# Altium schematic symbol library HORNET_MOTOR_CONTROLLER.SCHLIB: 3 symbols
Pins are listed as number, name and electrical type; pins without a type are passive.

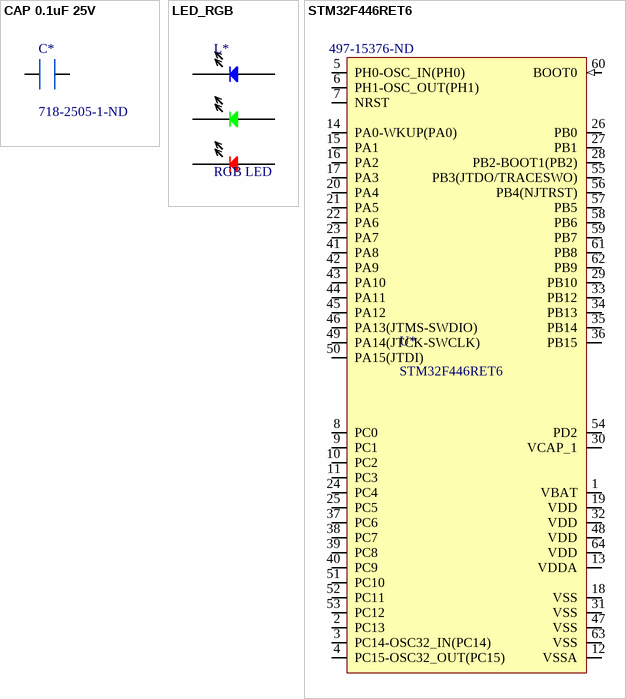
[diagram p0: symbols CAP 0.1uF 25V to STM32F446RET6]

## CAP 0.1uF 25V
designator C*  Supplier Part Number 1: 718-2505-1-ND
Tantalum Capacitor, Polarized, Tantalum (dry/solid), 25V, 20% +Tol, 20% -Tol, 0.1uF, Surface Mount, 0805; Manufacturer: Vishay; Manufacturer Part Number: TMCP1E104MTRF; Supplier 1: Digi-Key; RoHS: No; Category: Tantalum Capacitors; Stock 1: 2857; Pricing 1: 1=0.33000, 10=0.22600, 50=0.15800, 100=0.13550, 500=0.10158, 1000=0.08579 (USD); Number of Pins: 2; Dielectric Material: Tantalum; Terminal Finish: Tin; JESD-609 Code: e3; Capacitor Type: Tantalum; ComponentLink1URL: https://datasheet.ciiva.com:443/pdfs/VipMasterIC/IC/VISH/VISH-S-A0002931701/VISH-S-A0002931701-1.pdf?src-supplier=IHS+Markit; ComponentLink1Description: https://datasheet.ciiva.com:443/pdfs/VipMasterIC/IC/VISH/VISH-S-A0002931701/VISH-S-A0002931701-1.pdf?src-supplier=IHS+Markit
pins: 0 08, 1

## LED_RGB
designator L*, comment RGB LED
Triple Color LED
footprint UHD1110-FKA-CL1A13R3Q1BBQFMF3
pins: 1 GREEN -, 2 Green +, 3 RED -, 4 Red +, 5 BLUE -, 6 Blue +

## STM32F446RET6
designator U*  Supplier Part Number 1: 497-15376-ND
RISC Microcontroller, 32-Bit, FLASH, CORTEX-M4F CPU, 180MHz, CMOS, PQFP64; Manufacturer: STMicroelectronics; Package Body Material: Plastic; Package Equivalence Code: QFP64,.47SQ,20; Power Supplies: 1.8/3.3V; Speed: 180RPM; Max Supply Current: 115mA; Qualification Status: Not Qualified; Parameter 1: *; Supplier 1: Digi-Key; Manufacturer Part Number: STM32F446RET6; RoHS: Yes; Category: Microcontrollers; Pricing 1: 1=9.05000, 10=8.17300, 25=7.79320, 160=6.76675, 320=6.46266, 480=5.89242, 960=5.13210, 2400=4.94202, 4960=4.75194 (USD); Package Code: QFP; Number of Pins: 64; Package Shape: Square; Min Operating Temperature: -40°C; Max Operating Temperature: 85°C; JESD-30 Code: S-PQFP-G64; Package Style: FLATPACKMeter; Surface Mount: Yes; Technology: CMOS; Terminal Form: Gull Wing; Terminal Position: QUAD; Terminal Pitch: 0.5mm; Temperature Grade: INDUSTRIAL; ComponentLink1URL: https://datasheet.ciiva.com:443/pdfs/VipMasterIC/IC/SGST/SGST-S-A0000954157/SGST-S-A0000954273-1.pdf?src-supplier=IHS+Markit; ComponentLink1Description: https://datasheet.ciiva.com:443/pdfs/VipMasterIC/IC/SGST/SGST-S-A0000954157/SGST-S-A0000954273-1.pdf?src-supplier=IHS+Markit; ComponentLink2URL: http://www.farnell.com/datasheets/2309063.pdf?src-supplier=Farnell; ComponentLink2Description: http://www.farnell.com/datasheets/2309063.pdf?src-supplier=Farnell; ComponentLink3URL: http://www.mouser.com/ds/2/389/stm32f446mc-956216.pdf?src-supplier=Mouser; ComponentLink3Description: http://www.mouser.com/ds/2/389/stm32f446mc-956216.pdf?src-supplier=Mouser; ComponentLink4URL: http://www.farnell.com/datasheets/2309063.pdf?src-supplier=Newark; ComponentLink4Description: http://www.farnell.com/datasheets/2309063.pdf?src-supplier=Newark; ComponentLink5URL: http://www.st.com/content/ccc/resource/technical/document/datasheet/65/cb/75/50/53/d6/48/24/DM00141306.pdf/files/DM00141306.pdf/jcr:content/translations/en.DM00141306.pdf?src-supplier=Digi-Key; ComponentLink5Description: http://www.st.com/content/ccc/resource/technical/document/datasheet/65/cb/75/50/53/d6/48/24/DM00141306.pdf/files/DM00141306.pdf/jcr:content/translations/en.DM00141306.pdf?src-supplier=Digi-Key; ComponentLink6URL: http://www.farnell.com/datasheets/2309063.pdf?src-supplier=Element14; ComponentLink6Description: http://www.farnell.com/datasheets/2309063.pdf?src-supplier=Element14
pins: 1 VBAT (power), 2 PC13 (io) "PC13/EVENTOUT/TAMP_1/WKUP1", 3 PC14-OSC32_IN(PC14) (io) "PC14/EVENTOUT/OSC32_IN", 4 PC15-OSC32_OUT(PC15) (io) "PC15/EVENTOUT/OSC32_OUT", 5 PH0-OSC_IN(PH0) (io) "PH0/EVENTOUT/OSC_IN", 6 PH1-OSC_OUT(PH1) (io) "PH1/EVENTOUT/OSC_OUT", 7 NRST (io), 8 PC0 (io) "PC0/SAI1_MCLK_B,OTG_HS_ULPI_STP,FMC_SDNWE,EVENTOUT/ADC123_IN10", 9 PC1 (io) "PC1/SPI3_MOSI/I2S3_SD,SAI1_SD_A,SPI2_MOSI/I2S2_SD,EVENTOUT/ADC123_IN11", 10 PC2 (io) "PC2/SPI2_MISO,OTG_HS_ULPI_DIR,FMC_SDNE0,EVENTOUT/ADC123_IN12", 11 PC3 (io) "PC3/SPI2_MOSI/I2S2_SD,OTG_HS_ULPI_NXT,FMC_SDCKE0,EVENTOUT/ADC123_IN13", 12 VSSA (power), 13 VDDA (power), 14 PA0-WKUP(PA0) (io) "PA0-WKUP(PA0)/TIM2_CH1/TIM2_ETR,TIM5_CH1,TIM8_ETR,USART2_CTS,UART4_TX,EVENTOUT/ADC123_IN0,WKUP0/TAMP_2", 15 PA1 (io) "PA1/TIM2_CH2,TIM5_CH2,USART2_RTS,UART4_RX,QUADSPI_BK1_IO3,SAI2_MCLK_B,EVENTOUT/ADC123_IN1", 16 PA2 (io) "PA2/TIM2_CH3,TIM5_CH3,TIM9_CH1,USART2_TX,SAI2_SCK_B,EVENTOUT/ADC123_IN2", 17 PA3 (io) "PA3/TIM2_CH4,TIM5_CH4,TIM9_CH2,SAI1_FS_A,USART2_RX,OTG_HS_ULPI_D0,EVENTOUT/ADC123_IN3", 18 VSS (power), 19 VDD (power), 20 PA4 (io) "PA4/SPI1_NSS/I2S1_WS,SPI3_NSS/I2S3_WS,USART2_CK,OTG_HS_SOF,DCMI_HSYNC,EVENTOUT/ADC12_IN4,DAC_OUT1", 21 PA5 (io) "PA5/TIM2_CH1/TIM2_ETR,TIM8_CH1N,SPI1_SCK/I2S1_CK,OTG_HS_ULPI_CK,EVENTOUT/ADC12_IN5,DAC_OUT2", 22 PA6 (io) "PA6/TIM1_BKIN,TIM3_CH1,TIM8_BKIN,SPI1_MISO,I2S2_MCK,TIM13_CH1,DCMI_PIXCLK,EVENTOUT/ADC12_IN6", 23 PA7 (io) "PA7/TIM1_CH1N,TIM3_CH2,TIM8_CH1N,SPI1_MOSI/I2S1_SD,TIM14_CH1,FMC_SDNWE,EVENTOUT/ADC12_IN7", 24 PC4 (io) "PC4/I2S1_MCK,SPDIFRX_IN2,FMC_SDNE0,EVENTOUT/ADC12_IN14", 25 PC5 (io) "PC5/USART3_RX,SPDIFRX_IN3,FMC_SDCKE0,EVENTOUT/ADC12_IN15", 26 PB0 (io) "PB0/TIM1_CH2N,TIM3_CH3,TIM8_CH2N,SPI3_MOSI/I2S3_SD,UART4_CTS,OTG_HS_ULPI_D1,SDIO_D1,EVENTOUT/ADC12_IN8", 27 PB1 (io) "PB1/TIM1_CH3N,TIM3_CH4,TIM8_CH3N,OTG_HS_ULPI_D2,SDIO_D2,EVENTOUT/ADC12_IN9", 28 PB2-BOOT1(PB2) (io) "PB2-BOOT1(PB2)/TIM2_CH4,SAI1_SD_A,SPI3_MOSI/I2S3_SD,QUADSPI_CLK,OTG_HS_ULPI_D4,SDIO_CK,EVENTOUT", 29 PB10 (io) "PB10/TIM2_CH3,I2C2_SCL,SPI2_SCK/I2S2_CK,SAI1_SCK_A,USART3_TX,OTG_HS_ULPI_D3,EVENTOUT", 30 VCAP_1, 31 VSS (power), 32 VDD (power), 33 PB12 (io) "PB12/TIM1_BKIN,I2C2_SMBA,SPI2_NSS/I2S2_WS,SAI1_SCK_B,USART3_CK,CAN2_RX,OTG_HS_ULPI_D5,OTG_HS_ID,EVENTOUT", 34 PB13 (io) "PB13/TIM1_CH1N,SPI2_SCK/I2S2_CK,USART3_CTS,CAN2_TX,OTG_HS_ULPI_D6,EVENTOUT/OTG_HS_VBUS", 35 PB14 (io) "PB14/TIM1_CH2N,TIM8_CH2N,SPI2_MISO,USART3_RTS,TIM12_CH1,OTG_HS_DM,EVENTOUT", 36 PB15 (io) "PB15/RTC_REFIN,TIM1_CH3N,TIM8_CH3N,SPI2_MOSI/I2S2_SD,TIM12_CH2,OTG_HS_DP,EVENTOUT", 37 PC6 (io) "PC6/TIM3_CH1,TIM8_CH1,FMPI2C1_SCL,I2S2_MCK,USART6_TX,SDIO_D6,DCMI_D0,EVENTOUT", 38 PC7 (io) "PC7/TIM3_CH2,TIM8_CH2,FMPI2C1_SDA,SPI2_SCK/I2S2_CK,I2S3_MCK,SPDIFRX_IN1,USART6_RX,SDIO_D7,DCMI_D1,EVENTOUT", 39 PC8 (io) "PC8/TRACED0,TIM3_CH3,TIM8_CH3,UART5_RTS,USART6_CK,SDIO_D0,DCMI_D2,EVENTOUT", 40 PC9 (io) "PC9/MCO2,TIM3_CH4,TIM8_CH4,I2C3_SDA,I2S_CKIN,UART5_CTS,QUADSPI_BK1_IO0,SDIO_D1,DCMI_D3,EVENTOUT", 41 PA8 (io) "PA8/MCO1,TIM1_CH1,I2C3_SCL,USART1_CK,OTG_FS_SOF,EVENTOUT", 42 PA9 (io) "PA9/TIM1_CH2,I2C3_SMBA,SPI2_SCK/I2S2_CK,SAI1_SD_B,USART1_TX,DCMI_D0,EVENTOUT/OTG_FS_VBUS", 43 PA10 (io) "PA10/TIM1_CH3,USART1_RX,OTG_FS_ID,DCMI_D1,EVENTOUT", 44 PA11 (io) "PA11/TIM1_CH4,USART1_CTS,CAN1_RX,OTG_FS_DM,EVENTOUT", 45 PA12 (io) "PA12/TIM1_ETR,USART1_RTS,SAI2_FS_B,CAN1_TX,OTG_FS_DP,EVENTOUT", 46 PA13(JTMS-SWDIO) (io) "PA13/JTMS-SWDIO,EVENTOUT", 47 VSS (power), 48 VDD (power), 49 PA14(JTCK-SWCLK) (io) "PA14/JTCK-SWCLK,EVENTOUT", 50 PA15(JTDI) (io) "PA15/JTDI,TIM2_CH1/TIM2_ETR,HDMI_CEC,SPI1_NSS/I2S1_WS,SPI3_NSS/I2S3_WS,UART4_RTS,EVENTOUT", 51 PC10 (io) "PC10/SPI3_SCK/I2S3_CK,USART3_TX,UART4_TX,QUADSPI_BK1_IO1,SDIO_D2,DCMI_D8,EVENTOUT", 52 PC11 (io) "PC11/SPI3_MISO,USART3_RX,UART4_RX,QUADSPI_BK2_NCS,SDIO_D3,DCMI_D4,EVENTOUT", 53 PC12 (io) "PC12/I2C2_SDA,SPI3_MOSI/I2S3_SD,USART3_CK,UART5_TX,SDIO_CK,DCMI_D9,EVENTOUT", 54 PD2 (io) "PD2/TIM3_ETR,UART5_RX,SDIO_CMD,DCMI_D11,EVENTOUT", 55 PB3(JTDO/TRACESWO) (io) "PB3/JTDO/TRACESWO,TIM2_CH2,I2C2_SDA,SPI1_SCK/I2S1_CK,SPI3_SCK/I2S3_CK,EVENTOUT", 56 PB4(NJTRST) (io) "PB4/NJTRST,TIM3_CH1,I2C3_SDA,SPI1_MISO,SPI3_MISO,SPI2_NSS/I2S2_WS,EVENTOUT", 57 PB5 (io) "PB5/TIM3_CH2,I2C1_SMBA,SPI1_MOSI/I2S1_SD,SPI3_MOSI/I2S3_SD,CAN2_RX,OTG_HS_ULPI_D7,FMC_SDCKE1,DCMI_D10,EVENTOUT", 58 PB6 (io) "PB6/TIM4_CH1,HDMI_CEC,I2C1_SCL,USART1_TX,CAN2_TX,QUADSPI_BK1_NCS,FMC_SDNE1,DCMI_D5,EVENTOUT", 59 PB7 (io) "PB7/TIM4_CH2,I2C1_SDA,USART1_RX,SPDIFRX_IN0,FMC_NL,DCMI_VSYNC,EVENTOUT", 60 BOOT0 (in) "BOOT0/VPP", 61 PB8 (io) "PB8/TIM2_CH1/TIM2_ETR,TIM4_CH3,TIM10_CH1,I2C1_SCL,CAN1_RX,SDIO_D4,DCMI_D6,EVENTOUT", 62 PB9 (io) "PB9/TIM2_CH2,TIM4_CH4,TIM11_CH1,I2C1_SDA,SPI2_NSS/I2S2_WS,SAI1_FS_B,CAN1_TX,SDIO_D5,DCMI_D7,EVENTOUT", 63 VSS (power), 64 VDD (power)